# Altium schematic symbol library MT53E384M32D2DS-053AUT&colon_E.SchLib: 2 symbols
Pins are listed as number, name and electrical type; pins without a type are passive.

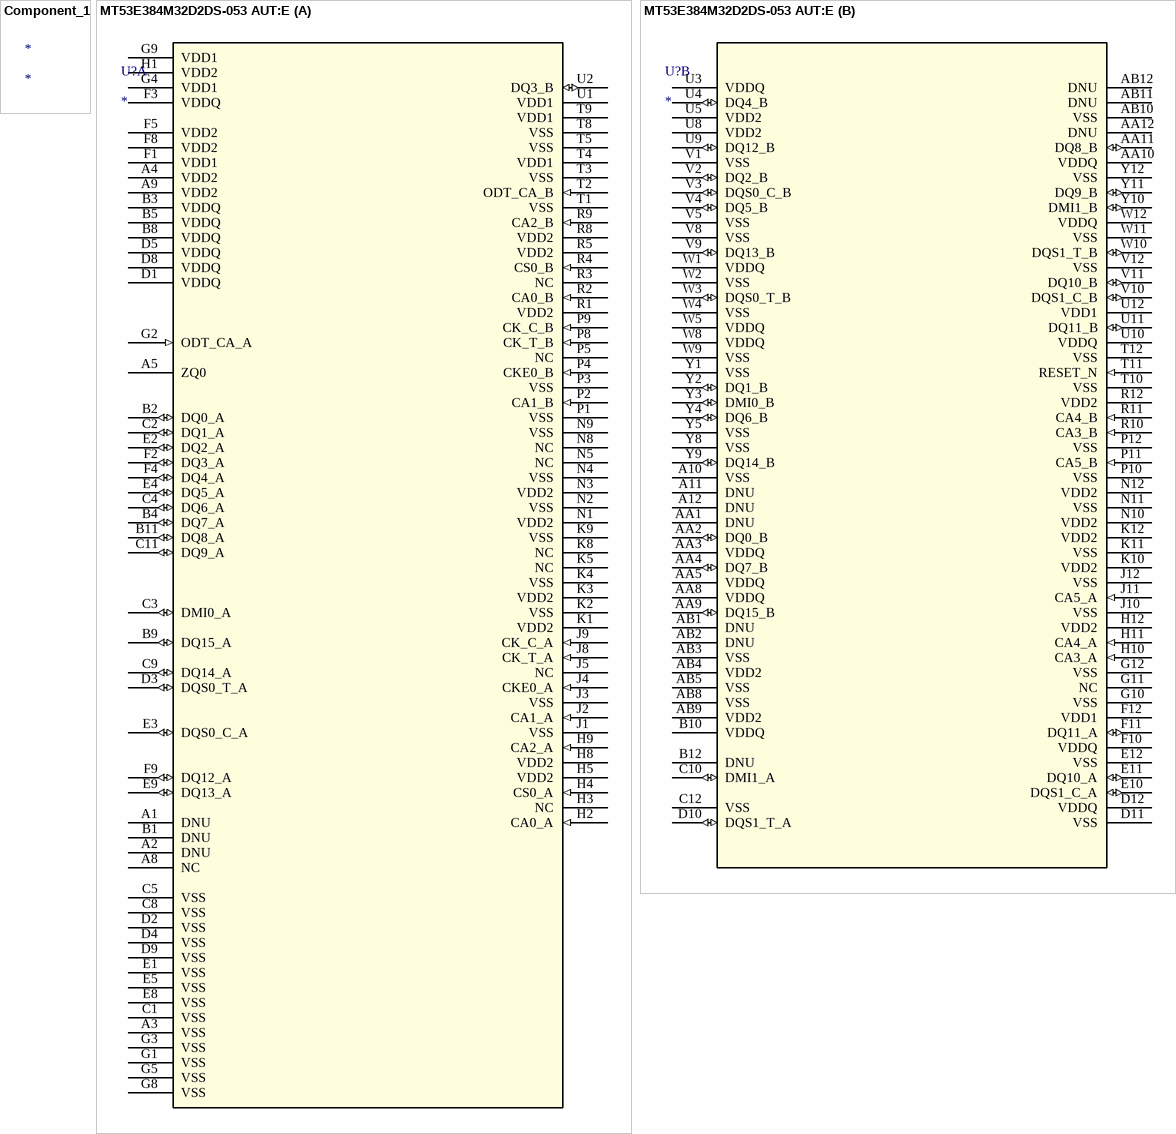
[diagram p0: symbols Component_1 to MT53E384M32D2DS-053 AUT:E]

## Component_1
designator *

## MT53E384M32D2DS-053 AUT:E
designator U?
No Description Available; Mfr_Name: Micron; RefDes: RefDes; Type: Type
footprint WFBGA200_10X14.5_DS_MRN
part A pins: A1 DNU, A2 DNU, A3 VSS (power), A4 VDD2 (power), A5 ZQ0, A8 NC, A9 VDD2 (power), B1 DNU, B2 DQ0_A (io), B3 VDDQ (power), B4 DQ7_A (io), B5 VDDQ (power), B8 VDDQ (power), B9 DQ15_A (io), B11 DQ8_A (io), C1 VSS (power), C2 DQ1_A (io), C3 DMI0_A (io), C4 DQ6_A (io), C5 VSS (power), C8 VSS (power), C9 DQ14_A (io), C11 DQ9_A (io), D1 VDDQ (power), D2 VSS (power), D3 DQS0_T_A (io), D4 VSS (power), D5 VDDQ (power), D8 VDDQ (power), D9 VSS (power), E1 VSS (power), E2 DQ2_A (io), E3 DQS0_C_A (io), E4 DQ5_A (io), E5 VSS (power), E8 VSS (power), E9 DQ13_A (io), F1 VDD1 (power), F2 DQ3_A (io), F3 VDDQ (power), F4 DQ4_A (io), F5 VDD2 (power), F8 VDD2 (power), F9 DQ12_A (io), G1 VSS (power), G2 ODT_CA_A (in), G3 VSS (power), G4 VDD1 (power), G5 VSS (power), G8 VSS (power), G9 VDD1 (power), H1 VDD2 (power), H2 CA0_A (in), H3 NC, H4 CS0_A (in), H5 VDD2 (power), H8 VDD2 (power), H9 CA2_A (in), J1 VSS (power), J2 CA1_A (in), J3 VSS (power), J4 CKE0_A (in), J5 NC, J8 CK_T_A (in), J9 CK_C_A (in), K1 VDD2 (power), K2 VSS (power), K3 VDD2 (power), K4 VSS (power), K5 NC, K8 NC, K9 VSS (power), N1 VDD2 (power), N2 VSS (power), N3 VDD2 (power), N4 VSS (power), N5 NC, N8 NC, N9 VSS (power), P1 VSS (power), P2 CA1_B (in), P3 VSS (power), P4 CKE0_B (in), P5 NC, P8 CK_T_B (in), P9 CK_C_B (in), R1 VDD2 (power), R2 CA0_B (in), R3 NC, R4 CS0_B (in), R5 VDD2 (power), R8 VDD2 (power), R9 CA2_B (in), T1 VSS (power), T2 ODT_CA_B (in), T3 VSS (power), T4 VDD1 (power), T5 VSS (power), T8 VSS (power), T9 VDD1 (power), U1 VDD1 (power), U2 DQ3_B (io)
part B pins: A10 VSS (power), A11 DNU, A12 DNU, AA1 DNU, AA2 DQ0_B (io), AA3 VDDQ (power), AA4 DQ7_B (io), AA5 VDDQ (power), AA8 VDDQ (power), AA9 DQ15_B (io), AA10 VDDQ (power), AA11 DQ8_B (io), AA12 DNU, AB1 DNU, AB2 DNU, AB3 VSS (power), AB4 VDD2 (power), AB5 VSS (power), AB8 VSS (power), AB9 VDD2 (power), AB10 VSS (power), AB11 DNU, AB12 DNU, B10 VDDQ (power), B12 DNU, C10 DMI1_A (io), C12 VSS (power), D10 DQS1_T_A (io), D11 VSS (power), D12 VDDQ (power), E10 DQS1_C_A (io), E11 DQ10_A (io), E12 VSS (power), F10 VDDQ (power), F11 DQ11_A (io), F12 VDD1 (power), G10 VSS (power), G11 NC, G12 VSS (power), H10 CA3_A (in), H11 CA4_A (in), H12 VDD2 (power), J10 VSS (power), J11 CA5_A (in), J12 VSS (power), K10 VDD2 (power), K11 VSS (power), K12 VDD2 (power), N10 VDD2 (power), N11 VSS (power), N12 VDD2 (power), P10 VSS (power), P11 CA5_B (in), P12 VSS (power), R10 CA3_B (in), R11 CA4_B (in), R12 VDD2 (power), T10 VSS (power), T11 RESET_N (in), T12 VSS (power), U3 VDDQ (power), U4 DQ4_B (io), U5 VDD2 (power), U8 VDD2 (power), U9 DQ12_B (io), U10 VDDQ (power), U11 DQ11_B (io), U12 VDD1 (power), V1 VSS (power), V2 DQ2_B (io), V3 DQS0_C_B (io), V4 DQ5_B (io), V5 VSS (power), V8 VSS (power), V9 DQ13_B (io), V10 DQS1_C_B (io), V11 DQ10_B (io), V12 VSS (power), W1 VDDQ (power), W2 VSS (power), W3 DQS0_T_B (io), W4 VSS (power), W5 VDDQ (power), W8 VDDQ (power), W9 VSS (power), W10 DQS1_T_B (io), W11 VSS (power), W12 VDDQ (power), Y1 VSS (power), Y2 DQ1_B (io), Y3 DMI0_B (io), Y4 DQ6_B (io), Y5 VSS (power), Y8 VSS (power), Y9 DQ14_B (io), Y10 DMI1_B (io), Y11 DQ9_B (io), Y12 VSS (power)